# Altium footprint library mechanics.PcbLib: 37 footprints (part 2 of 3)
Each footprint in its own frame and in the unit in brackets; x right, y up, seen from the top. Pads: shape width x height; smd on the part's side, far side on the other; paste and mask are expansions set on the pad; w line width, h text height; cw(c..) or ccw(c..) is an arc to the next point about the centre after c.
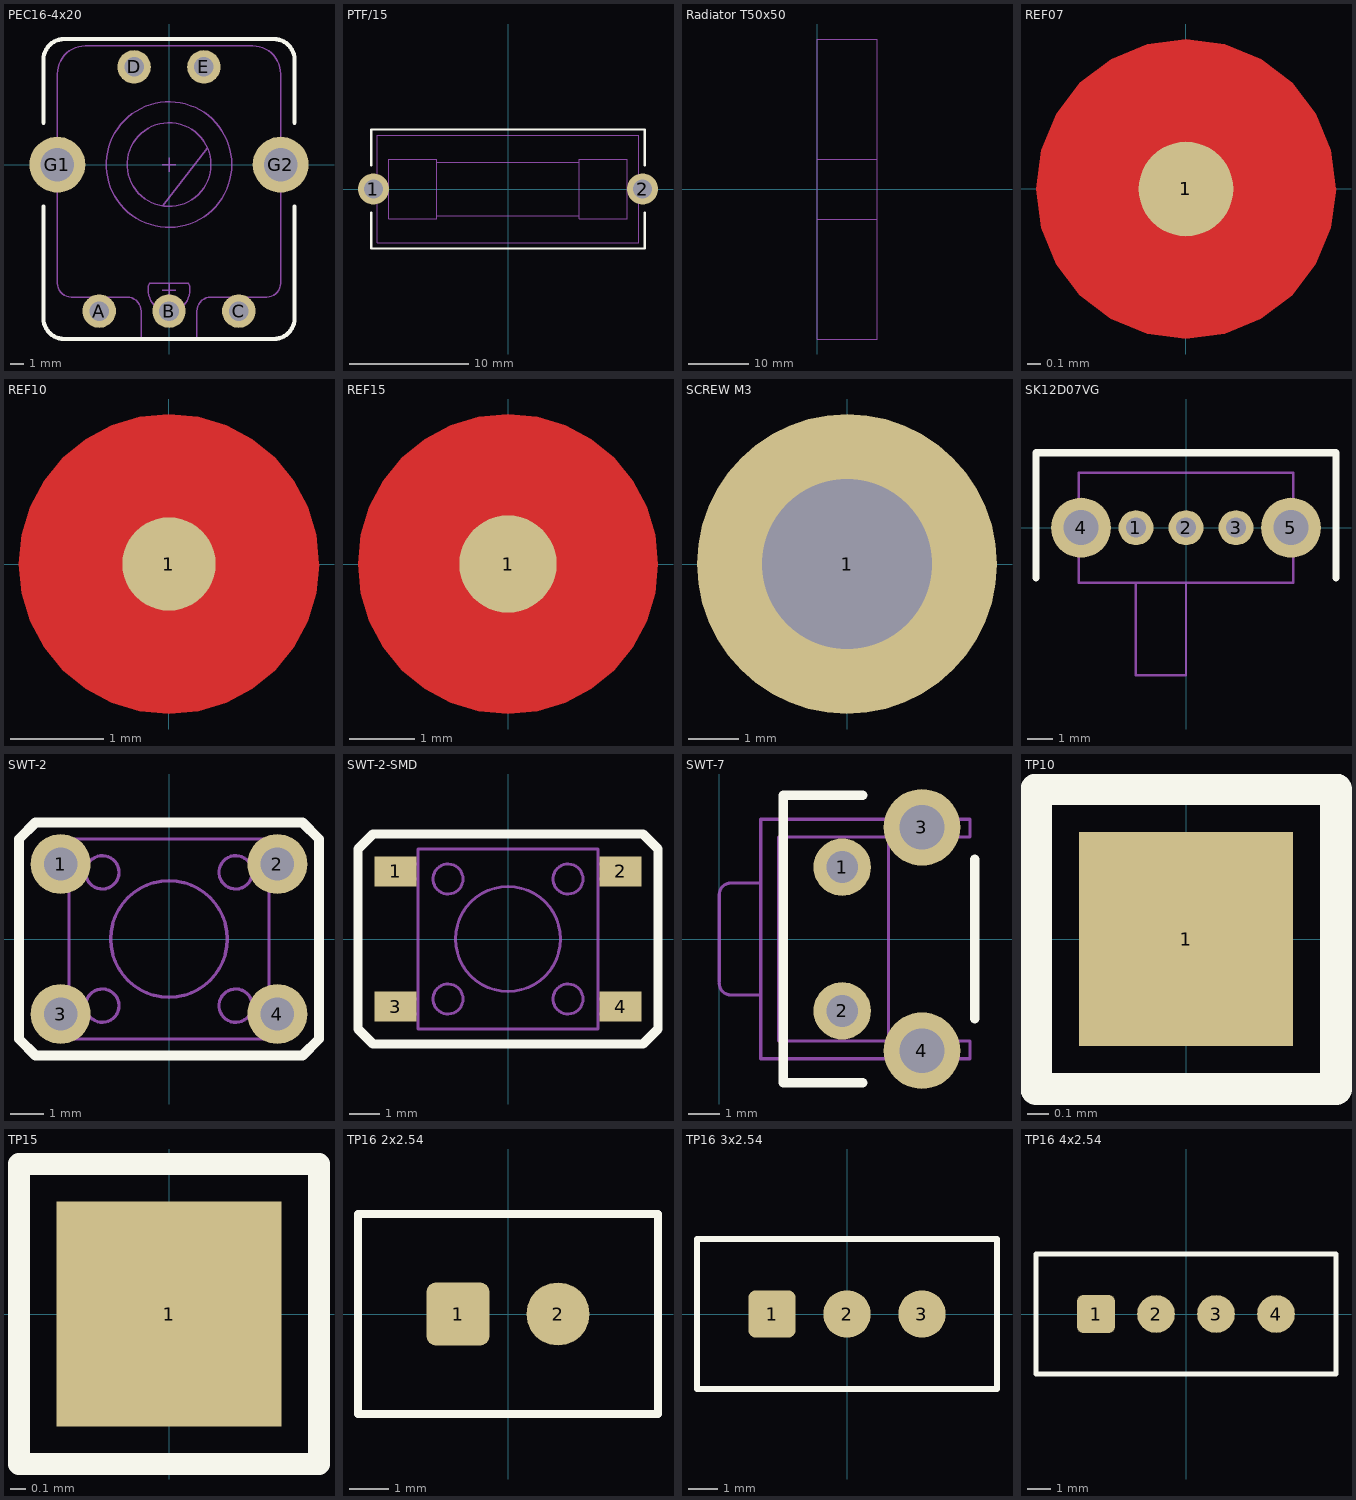
[diagram p1: the footprints below, top view; thin cyan lines are the x and y axes]

## PEC16-4x20 [mm] "Encoder"
height 28
pads (7):
  round 2.4 hole 1.4: A(-5,-10.5) B(0,-10.5) C(5,-10.5) D(-2.5,7) E(2.5,7)
  round 4 hole 2.4: G1(-8,0) G2(8,0)
Top Overlay:
  lines w0.3: -9,-3 -9,-11 ccw(c-7.5,-11) -7.5,-12.5 7.5,-12.5 ccw(c7.5,-11) 9,-11 9,-3 ; -9,3 -9,7.5 cw(c-7.5,7.5) -7.5,9 7.5,9 cw(c7.5,7.5) 9,7.5 9,3
Mechanical 1:
  circle w0.1: c0,0 r3
  circle w0.1: c0,0 r4.5
  lines w0.1: -1.423,-8.526 ccw(c0,-9) 1.423,-8.526 ; -1.4,-8.5 1.4,-8.5 ; -0.5,-9 0.5,-9 ; -0.5,0 0.5,0 ; -0.462,-2.952 2.742,1.168 ; 0,-9.5 0,-8.5 ; 0,-0.5 0,0.5 ; -8,-8.5 ccw(c-7,-8.5) -7,-9.5 -3,-9.5 cw(c-3,-10.5) -2,-10.5 -2,-12.5 2,-12.5 2,-10.5 cw(c3,-10.5) 3,-9.5 7,-9.5 ccw(c7,-8.5) 8,-8.5 8,6.5 ccw(c6,6.5) 6,8.5 -6,8.5 ccw(c-6,6.5) -8,6.5 -8,-8.5
3D body: height 8, standoff 2, extent -8.01,-12.5 8.01,8.51
3D body: height 15, standoff 7, extent -4.495,-4.499 4.5,4.499
3D body: height 28, standoff 8, extent -3,-2.99 3,2.99
3D body: height 10, standoff 7, extent -1.484,-10.503 1.484,-8.5

## PTF/15 [mm] "Fuse holder 5x20"
height 15
pads (2):
  round 2.6 hole 1.6: 1(-11.3,0) 2(11.3,0)
Top Overlay:
  lines w0.2: -11.5,-2 -11.5,-5 11.5,-5 11.5,-2 ; -11.5,2 -11.5,5 11.5,5 11.5,2
Mechanical 1:
  lines w0.1: -6,-2.25 6,-2.25 ; -6,2.25 6,2.25 ; -11,-4.5 11,-4.5 11,4.5 -11,4.5 -11,-4.5 ; -10,-2.5 -10,2.5 -6,2.5 -6,-2.5 -10,-2.5 ; 6,-2.5 6,2.5 10,2.5 10,-2.5 6,-2.5
3D body: height 5, standoff 0.5, extent -11,-4.5 11,4.5
3D body: height 12.75, standoff 8.25, extent -9,-2.241 9,2.25
3D body: height 13, standoff 8, extent 6,-2.499 10,2.499
3D body: height 13, standoff 8, extent -10,-2.499 -6,2.499

## Radiator T50x50 [mm]
height 50
Mechanical 1:
  lines w0.1: 0,-5 10,-5 ; 0,5 10,5 ; 0,-25 10,-25 10,25 0,25 0,-25
3D body: height 49, standoff 5, extent 0,-5 10,5
3D body: height 29, standoff 28, extent 0,-25 10,25
3D body: height 32, standoff 31, extent 0,-25 10,25
3D body: height 35, standoff 34, extent 0,-25 10,25
3D body: height 38, standoff 37, extent 0,-25 10,25
3D body: height 41, standoff 40, extent 0,-25 10,25
3D body: height 44, standoff 43, extent 0,-25 10,25
3D body: height 47, standoff 46, extent 0,-25 10,25
3D body: height 50, standoff 49, extent 0,-25 10,25

## REF07 [mm]
pads (1):
  round 0.7 smd paste-3 mask+0.6: 1(0,0)
Top Layer:
  pour cut-out: 0,1.109 0.287,1.072 0.555,0.961 0.785,0.785 0.961,0.555 1.072,0.287 1.109,0 1.072,-0.287 0.961,-0.555 0.785,-0.784 0.555,-0.961 0.287,-1.072 0,-1.109 -0.287,-1.072 -0.555,-0.961 -0.785,-0.785 -0.961,-0.555 -1.072,-0.287 -1.109,0 -1.072,0.287 -0.961,0.555 -0.785,0.784 -0.555,0.961 -0.287,1.072

## REF10 [mm]
pads (1):
  round 1 smd paste-3 mask+1: 1(0,0)
Top Layer:
  pour cut-out: 0,1.608 0.314,1.577 0.615,1.485 0.893,1.337 1.137,1.137 1.337,0.893 1.485,0.615 1.577,0.314 1.608,0 1.577,-0.314 1.485,-0.615 1.337,-0.893 1.137,-1.137 0.893,-1.337 0.615,-1.485 0.314,-1.577 0,-1.608 -0.314,-1.577 -0.615,-1.485 -0.893,-1.337 -1.137,-1.137 -1.337,-0.893 -1.485,-0.615 -1.577,-0.314 -1.608,0 -1.577,0.314 -1.485,0.615 -1.337,0.893 -1.137,1.137 -0.893,1.337 -0.615,1.485 -0.314,1.577 0,1.608

## REF15 [mm]
pads (1):
  round 1.5 smd paste-3 mask+1.45: 1(0,0)
Top Layer:
  pour cut-out: 0,2.311 0.451,2.267 0.884,2.135 1.284,1.922 1.634,1.634 1.922,1.284 2.135,0.884 2.267,0.451 2.311,0 2.267,-0.451 2.135,-0.885 1.922,-1.284 1.634,-1.634 1.284,-1.922 0.885,-2.135 0.451,-2.267 0,-2.311 -0.451,-2.267 -0.884,-2.135 -1.284,-1.922 -1.634,-1.634 -1.922,-1.284 -2.135,-0.884 -2.267,-0.451 -2.311,0 -2.267,0.451 -2.135,0.884 -1.922,1.284 -1.634,1.634 -1.284,1.922 -0.884,2.135 -0.451,2.267 0,2.311

## SCREW M3 [mm] "Screw pad"
height 4
pads (1):
  round 6 hole 3.4: 1(0,0)
3D body: height 0.6, standoff 0.1, extent -3.009,-3.009 3.009,3.009
3D body: height 2.5, standoff 0.5, extent -2.512,-2.512 2.512,2.512

## SK12D07VG [mm]
height 4.7
pads (5):
  round 1.4 hole 0.8: 1(-2,0) 2(0,0) 3(2,0)
  round 2.4 hole 1.4: 4(-4.2,0) 5(4.2,0)
Top Overlay:
  lines w0.3: -6,-2 -6,3 6,3 6,-2
Mechanical 1:
  lines w0.1: -2,-2.2 -2,-5.9 0,-5.9 0,-2.2 ; -4.3,-2.2 -4.3,2.2 4.3,2.2 4.3,-2.2 -4.3,-2.2
3D body: height 4.7, standoff 0.2, extent -4.3,-2.2 4.3,2.2
3D body: height 3.7, standoff 1.7, extent -2,-5.9 0,0

## SWT-2 [mm]
height 5
pads (4):
  round 1.8 hole 1: 1(-3.25,2.25) 2(3.25,2.25) 3(-3.25,-2.25) 4(3.25,-2.25)
Top Overlay:
  lines w0.3: -4.5,-3 -4.5,3 -4,3.5 4,3.5 4.5,3 4.5,-3 4,-3.5 -4,-3.5 -4.5,-3
Mechanical 1:
  circle w0.1: c0,0 r1.75
  circle w0.1: c2,2 r0.5
  circle w0.1: c2,-2 r0.5
  circle w0.1: c-2,2 r0.5
  circle w0.1: c-2,-2 r0.5
  lines w0.1: -3,-2.5 -3.5,-2.5 -3.5,-2 -3,-2 ; -3,2 -3.5,2 -3.5,2.5 -3,2.5 ; 3,-2.5 3.5,-2.5 3.5,-2 3,-2 ; 3,2 3.5,2 3.5,2.5 3,2.5 ; -3,-3 3,-3 3,3 -3,3 -3,-3
3D body: height 3.75, standoff 0.25, extent -2.498,1.5 -1.5,2.5
3D body: height 3.75, standoff 0.25, extent -2.498,-2.5 -1.5,-1.5
3D body: height 3.75, standoff 0.25, extent 1.502,-2.5 2.5,-1.5
3D body: height 3.75, standoff 0.25, extent 1.502,1.5 2.5,2.5
3D body: height 3.5, standoff 0, extent -3,-3 3,3
3D body: height 4.3, standoff 0, extent -1.748,-1.749 1.75,1.749

## SWT-2-SMD [mm]
height 5
pads (4):
  rect 1.4x1 smd: 1(-3.75,2.25) 2(3.75,2.25) 3(-3.75,-2.25) 4(3.75,-2.25)
Top Overlay:
  lines w0.3: -5,-3 -5,3 -4.5,3.5 4.5,3.5 5,3 5,-3 4.5,-3.5 -4.5,-3.5 -5,-3
Mechanical 1:
  circle w0.1: c0,0 r1.75
  circle w0.1: c2,2 r0.5
  circle w0.1: c2,-2 r0.5
  circle w0.1: c-2,2 r0.5
  circle w0.1: c-2,-2 r0.5
  lines w0.1: -3,-2.5 -4,-2.5 -4,-2 -3,-2 ; -3,2 -4,2 -4,2.5 -3,2.5 ; 3,-2.5 4,-2.5 4,-2 3,-2 ; 3,2 4,2 4,2.5 3,2.5 ; -3,-3 3,-3 3,3 -3,3 -3,-3
3D body: height 3.75, standoff 0.25, extent -2.498,1.5 -1.5,2.5
3D body: height 3.75, standoff 0.25, extent -2.498,-2.5 -1.5,-1.5
3D body: height 3.75, standoff 0.25, extent 1.502,-2.5 2.5,-1.5
3D body: height 3.75, standoff 0.25, extent 1.502,1.5 2.5,2.5
3D body: height 3.5, standoff 0, extent -3,-3 3,3
3D body: height 4.3, standoff 0, extent -1.748,-1.749 1.75,1.749

## SWT-7 [mm]
pads (4):
  round 1.8 hole 1: 1(3.85,2.25) 2(3.85,-2.25)
  round 2.4 hole 1.4: 3(6.35,3.5) 4(6.35,-3.5)
Top Overlay:
  lines w0.3: 4.5,-4.5 2,-4.5 2,4.5 4.5,4.5 ; 8,-2.5 8,2.5
Mechanical 1:
  lines w0.1: 0,-1.4 ccw(c0.35,-1.4) 0.35,-1.75 1.3,-1.75 ; 0,-1.35 0,1.4 cw(c0.35,1.4) 0.35,1.75 1.3,1.75 ; 5.3,-3.2 5.3,3.2 ; 1.3,-3.75 7.85,-3.75 7.85,-3.2 1.85,-3.2 1.85,3.2 7.85,3.2 7.85,3.75 1.3,3.75 1.3,-3.75
3D body: height 7.37, standoff -3.5, extent -0.12,-4.184 7.85,4.179

## TP10 [mm]
pads (1):
  rect 1x1 smd paste-3: 1(0,0)
Top Overlay:
  lines w0.15: -0.7,-0.7 -0.7,0.7 0.7,0.7 0.7,-0.7 -0.7,-0.7

## TP15 [mm]
pads (1):
  rect 1.5x1.5 smd paste-3: 1(0,0)
Top Overlay:
  lines w0.15: -1,-1 1,-1 1,1 -1,1 -1,-1

## TP16 2x2.54 [mm] "2 test pins 2.54mm pitch"
pads (2):
  rrect30% 1.6x1.6 smd paste-1: 1(-1.27,0)
  round 1.6 smd paste-1: 2(1.27,0)
Top Overlay:
  lines w0.2: -3.81,-2.54 -3.81,2.54 3.81,2.54 3.81,-2.54 -3.81,-2.54

## TP16 3x2.54 [mm] "3 test pins 2.54mm pitch"
pads (3):
  rrect30% 1.6x1.6 smd paste-1: 1(-2.54,0)
  round 1.6 smd paste-1: 2(0,0) 3(2.54,0)
Top Overlay:
  lines w0.2: -5.08,-2.54 -5.08,2.54 5.08,2.54 5.08,-2.54 -5.08,-2.54

## TP16 4x2.54 [mm] "4 test pins 2.54mm pitch"
pads (4):
  rrect30% 1.6x1.6 smd paste-1: 1(-3.81,0)
  round 1.6 smd paste-1: 2(-1.27,0) 3(1.27,0) 4(3.81,0)
Top Overlay:
  lines w0.2: -6.35,-2.54 -6.35,2.54 6.35,2.54 6.35,-2.54 -6.35,-2.54